# Altium schematic symbol library TPS561201DDCT.SchLib: 1 symbol
Pins are listed as number, name and electrical type; pins without a type are passive.

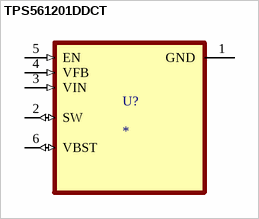
[diagram p0: symbol TPS561201DDCT]

## TPS561201DDCT
designator U?
4.5V to 17V Input, 1A Synchronous Step-Down Voltage Regulator in 6-pin SOT-23; MF: Texas Instruments; MP: TPS561201DDCT; SnapEDA_Link: https://www.snapeda.com/parts/TPS561201DDCT/Texas+Instruments/view-part/?ref=snap; Package: SOT-23-THN-6 Texas Instruments; Value: *; Check_prices: https://www.snapeda.com/parts/TPS561201DDCT/Texas+Instruments/view-part/?ref=eda
footprint SOT95P280X110-6N
pins: 1 GND (power), 2 SW (io), 3 VIN (in), 4 VFB (in), 5 EN (in), 6 VBST (io)